# EAGLE library part ATSAMD21E17A-AUT (library ATSAMD21E17A-AUT)
IC MCU 32BIT 128KB FLASH 32TQFP Source: Datasheet <https://4donline.ihs.com/images/VipMasterIC/IC/MCHP/MCHP-S-A0011993473/MCHP-S-A0013581487-1.pdf?hkey=EF798316E3902B6ED9A73243A3159BB0>
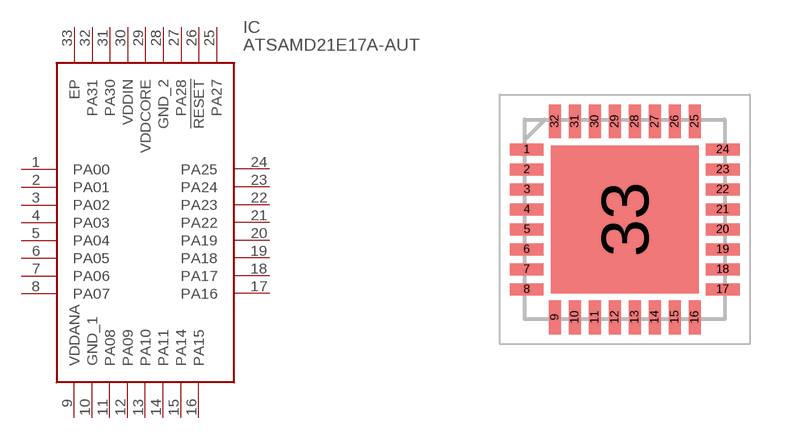
[diagram p0: symbol with the pads of QFN50P500X500X100-33N; footprint QFN50P500X500X100-33N]

Designator prefix IC

## ATSAMD21E17A-AUT (Description: IC MCU 32BIT 128KB FLASH 32TQFP; Height: 1mm; Manufacturer_Name: Microchip; Manufacturer_Part_Number: ATSAMD21E17A-AUT; Mouser_Part_Number: 556-ATSAMD21E17A-AUT; Mouser_Price-Stock: https://www.mouser.co.uk/ProductDetail/Microchip-Technology/ATSAMD21E17A-AUT?qs=KLFHFgXTQiBLmA2MEeDLVA%3D%3D)  [QFN50P500X500X100-33N]
1  PA00
2  PA01
3  PA02
4  PA03
5  PA04
6  PA05
7  PA06
8  PA07
9  VDDANA
10  GND_1
11  PA08
12  PA09
13  PA10
14  PA11
15  PA14
16  PA15
17  PA16
18  PA17
19  PA18
20  PA19
21  PA22
22  PA23
23  PA24
24  PA25
25  PA27
26  !RESET
27  PA28
28  GND_2
29  VDDCORE
30  VDDIN
31  PA30
32  PA31
33  EP

## Footprint QFN50P500X500X100-33N (pad centres in mm)
2-Lead Very Thin Plastic Quad Flat, No Lead Package (S8B) - 5x5 mm Body [VQFN]
smd 0.85 x 0.3: 1 -2.45,1.75; 2 -2.45,1.25; 3 -2.45,0.75; 4 -2.45,0.25; 5 -2.45,-0.25; 6 -2.45,-0.75; 7 -2.45,-1.25; 8 -2.45,-1.75; 17 2.45,-1.75; 18 2.45,-1.25; 19 2.45,-0.75; 20 2.45,-0.25; 21 2.45,0.25; 22 2.45,0.75; 23 2.45,1.25; 24 2.45,1.75
smd 0.3 x 0.85: 9 -1.75,-2.45; 10 -1.25,-2.45; 11 -0.75,-2.45; 12 -0.25,-2.45; 13 0.25,-2.45; 14 0.75,-2.45; 15 1.25,-2.45; 16 1.75,-2.45; 25 1.75,2.45; 26 1.25,2.45; 27 0.75,2.45; 28 0.25,2.45; 29 -0.25,2.45; 30 -0.75,2.45; 31 -1.25,2.45; 32 -1.75,2.45
smd 3.7 x 3.7: 33 0,0